# EAGLE library part VL53L0X (library LARS_409_SENSORS)
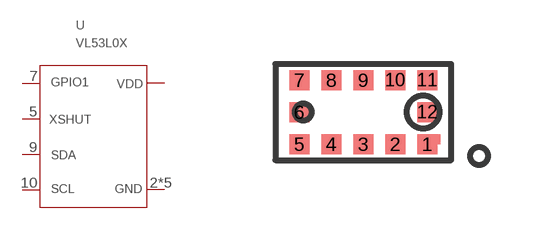
[diagram p10: symbol with the pads of LGA12; footprint LGA12]

Designator prefix U

## VL53L0X  [LGA12]
1  VDD
2  GND
3  GND
4  GND
5  XSHUT
6  GND
7  GPIO1
9  SDA
10  SCL
11  VDD
12  GND

## Footprint LGA12 (pad centres in mm)
smd 0.5 x 0.5: 1 1.6,-0.8; 2 0.8,-0.8; 3 0,-0.8; 4 -0.8,-0.8; 5 -1.6,-0.8; 6 -1.6,0; 7 -1.6,0.8; 8 -0.8,0.8; 9 0,0.8; 10 0.8,0.8; 11 1.6,0.8; 12 1.6,0